# Altium footprint library LDO.PcbLib: 100 footprints (part 5 of 7)
Each footprint in its own frame and in the unit in brackets; x right, y up, seen from the top. Pads: shape width x height; smd on the part's side, far side on the other; paste and mask are expansions set on the pad; w line width, h text height; cw(c..) or ccw(c..) is an arc to the next point about the centre after c.
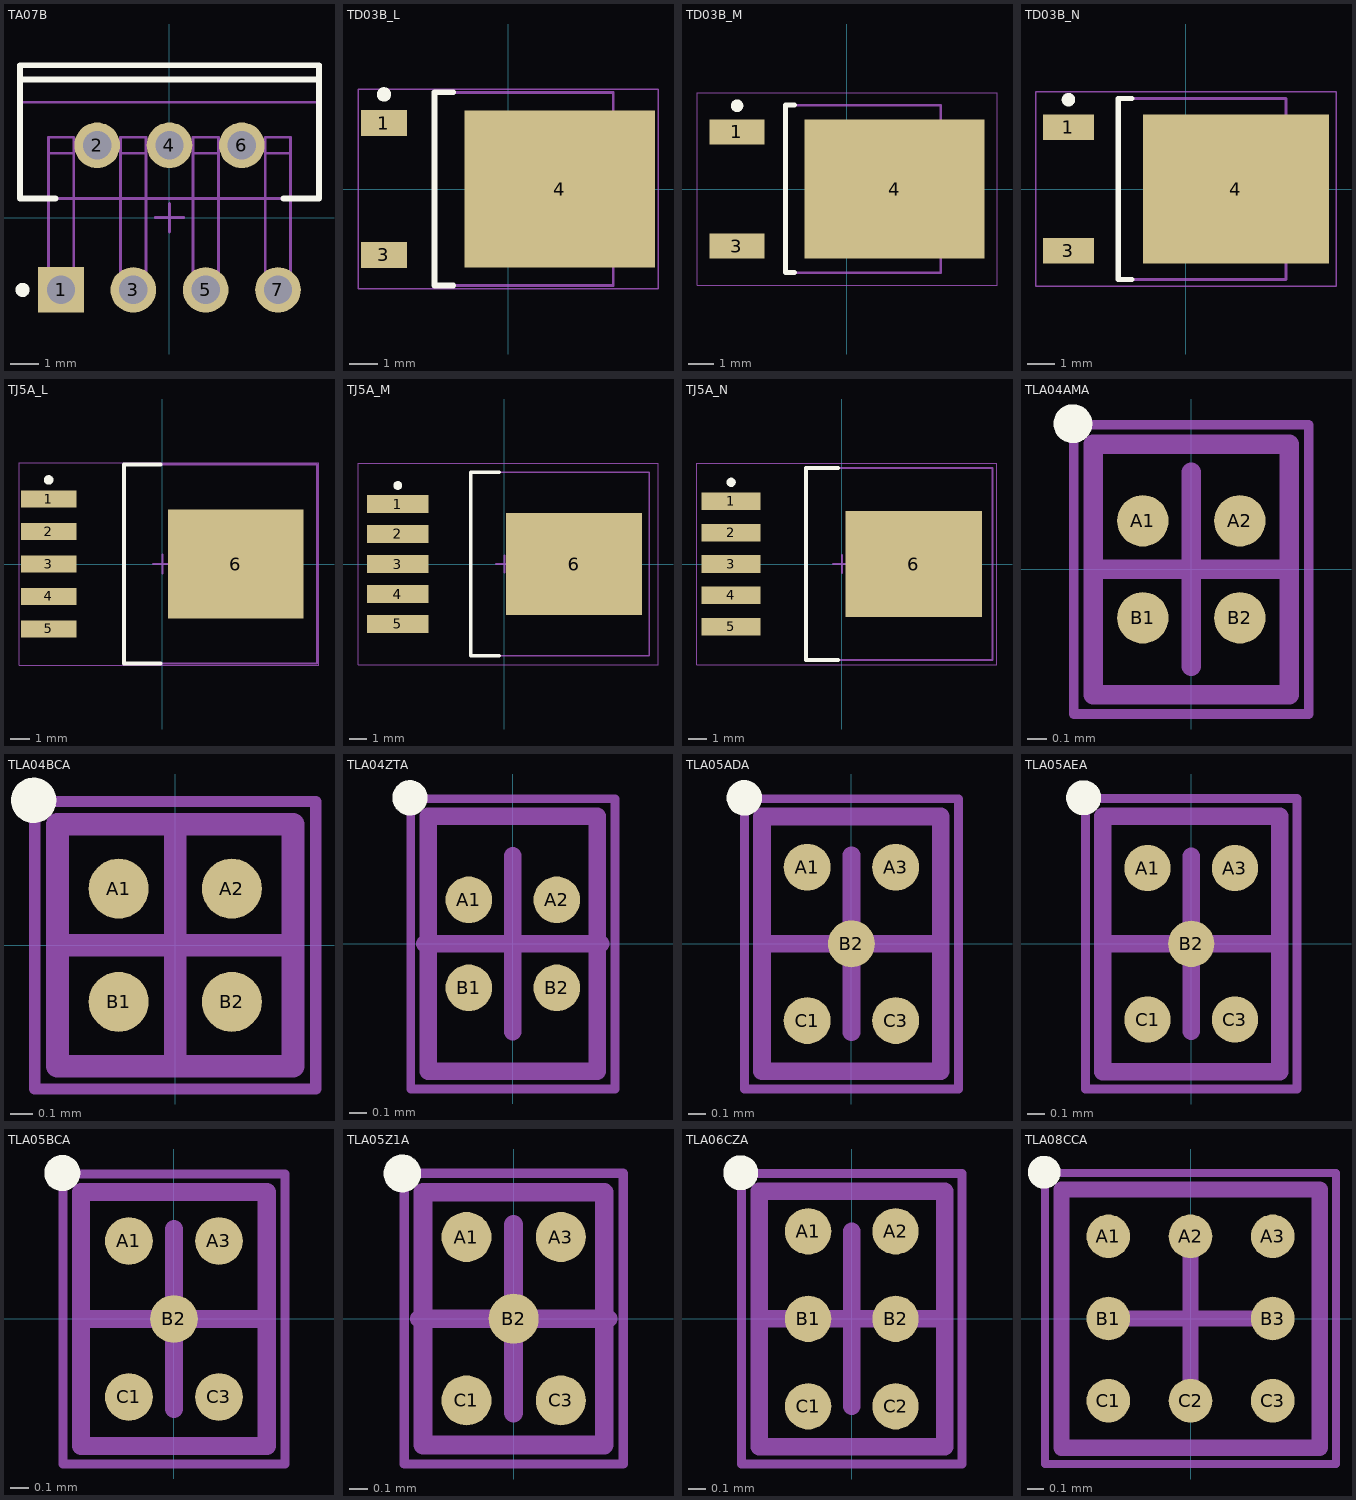
[diagram p4: the footprints below, top view; thin cyan lines are the x and y axes]

## TA07B [mm] "TO, Thru-Hole, Vertical, Heatsink Mounted; 7 Bent Staggered Leads; Pitch 1.27 mm"
height 20.9
pads (7):
  rect 1.6x1.6 hole 1: 1(-3.81,-2.54)
  round 1.6 hole 1: 2(-2.54,2.54) 3(-1.27,-2.54) 4(0,2.54) 5(1.27,-2.54) 6(2.54,2.54) 7(3.81,-2.54)
Top Overlay:
  circle w0.25: c-5.16,-2.54 r0.125
  lines w0.2: -5.25,4.85 5.25,4.85 ; -4,0.67 -5.25,0.67 -5.25,5.35 5.25,5.35 5.25,0.67 4,0.67
Mechanical 13:
  lines w0.1: -5.25,4.05 5.25,4.05 ; -4.255,-2.26 -4.255,-2.82 -3.365,-2.82 -3.365,-2.26 ; -4.255,-2.26 -3.365,-2.26 ; -4.255,-2.26 -4.255,2.26 ; -4.255,2.26 -3.365,2.26 ; -4.255,2.26 -4.255,2.82 -3.365,2.82 -3.365,2.26 ; -3.365,-2.26 -3.365,2.26 ; -1.715,-2.26 -1.715,-2.82 -0.825,-2.82 -0.825,-2.26 ; -1.715,-2.26 -0.825,-2.26 ; -1.715,-2.26 -1.715,2.26 ; -1.715,2.26 -0.825,2.26 ; -1.715,2.26 -1.715,2.82 -0.825,2.82 -0.825,2.26 ; -0.825,-2.26 -0.825,2.26 ; 0.825,-2.26 0.825,-2.82 1.715,-2.82 1.715,-2.26 ; 0.825,-2.26 1.715,-2.26 ; 0.825,-2.26 0.825,2.26 ; 0.825,2.26 1.715,2.26 ; 0.825,2.26 0.825,2.82 1.715,2.82 1.715,2.26 ; 1.715,-2.26 1.715,2.26 ; 3.365,-2.26 3.365,2.26 ; 3.365,-2.26 3.365,-2.82 4.255,-2.82 4.255,-2.26 ; 3.365,-2.26 4.255,-2.26 ; 3.365,2.26 4.255,2.26 ; 3.365,2.26 3.365,2.82 4.255,2.82 4.255,2.26 ; 4.255,-2.26 4.255,2.26 ; -5.25,0.67 5.25,0.67 5.25,5.35 -5.25,5.35 -5.25,0.67 ; -2.985,2.26 -2.095,2.26 -2.095,2.82 -2.985,2.82 -2.985,2.26 ; -0.445,2.26 0.445,2.26 0.445,2.82 -0.445,2.82 -0.445,2.26 ; 2.095,2.26 2.985,2.26 2.985,2.82 2.095,2.82 2.095,2.26
Mechanical 15:
  lines w0.1: -0.5,0 0.5,0 ; 0,-0.5 0,0.5
3D body: height 20.9, standoff 14.35, extent -5.249,4.051 5.249,5.349
3D body: height 5.4, standoff 3.3, extent 0.826,2.261 1.714,2.819
3D body: height 5.4, standoff 3.3, extent 3.366,2.261 4.254,2.819
3D body: height 5.4, standoff 0, extent 2.096,2.261 2.984,2.819
3D body: height 5.4, standoff 0, extent -0.444,2.261 0.444,2.819
3D body: height 5.4, standoff 3.3, extent -4.254,2.261 -3.366,2.819
3D body: height 5.4, standoff 0, extent -2.984,2.261 -2.096,2.819
3D body: height 5.4, standoff 3.3, extent -1.714,2.261 -0.826,2.819
3D body: height 3.69, standoff 2.15, extent -4.254,0.671 -3.366,2.259
3D body: height 3.69, standoff 2.15, extent -1.714,0.671 -0.826,2.259
3D body: height 3.69, standoff 2.15, extent 0.826,0.671 1.714,2.259
3D body: height 3.69, standoff 2.15, extent 3.366,0.671 4.254,2.259
3D body: height 2.45, standoff 0.45, extent 3.366,-2.259 4.254,0.669
3D body: height 2.45, standoff 0.45, extent 0.826,-2.259 1.714,0.669
3D body: height 2.45, standoff 0.45, extent -4.254,-2.259 -3.366,0.669
3D body: height 2.45, standoff 0.45, extent -1.714,-2.259 -0.826,0.669
3D body: height 0.7, standoff 0, extent 0.826,-2.819 1.714,-2.261
3D body: height 0.7, standoff 0, extent -4.254,-2.819 -3.366,-2.261
3D body: height 0.7, standoff 0, extent -1.714,-2.819 -0.826,-2.261
3D body: height 0.7, standoff 0, extent 3.366,-2.819 4.254,-2.261
3D body: height 14.35, standoff 5.4, extent -5.3,0.62 5.3,5.4

## TD03B_L [mm] "D-PAK, 4-Leads, Body 6.1x6.6mm, Pitch 2.29mm, Lead Span 9.7mm, IPC High Density"
height 2.38
pads (3):
  rect 1.6x0.9 smd: 1(-4.3,2.28) 3(-4.3,-2.28)
  rect 6.6x5.45 smd: 4(1.8,0)
Top Overlay:
  circle w0.25: c-4.3,3.28 r0.125
  lines w0.2: -1.9,-3.35 -2.55,-3.35 -2.55,3.35 -1.9,3.35
Mechanical 13:
  lines w0.1: -2.55,-3.35 3.65,-3.35 3.65,3.35 -2.55,3.35 -2.55,-3.35
Mechanical 15:
  lines w0.05: -5.2,-3.45 5.2,-3.45 5.2,3.45 -5.2,3.45 -5.2,-3.45
  lines w0.1: -0.5,0 0.5,0 ; 0,-0.5 0,0.5
3D body: height 2.38, standoff 0.17, extent -2.55,-3.35 3.65,3.35

## TD03B_M [mm] "D-PAK, 4-Leads, Body 6.1x6.6mm, Pitch 2.29mm, Lead Span 9.7mm, IPC Low Density"
height 2.38
pads (3):
  rect 2.2x1 smd: 1(-4.4,2.28) 3(-4.4,-2.28)
  rect 7.2x5.55 smd: 4(1.9,0)
Top Overlay:
  circle w0.25: c-4.4,3.33 r0.125
  lines w0.2: -2.1,-3.35 -2.45,-3.35 -2.45,3.35 -2.1,3.35
Mechanical 13:
  lines w0.1: -2.45,-3.35 3.75,-3.35 3.75,3.35 -2.45,3.35 -2.45,-3.35
Mechanical 15:
  lines w0.05: -6,-3.85 6,-3.85 6,3.85 -6,3.85 -6,-3.85
  lines w0.1: -0.5,0 0.5,0 ; 0,-0.5 0,0.5
3D body: height 2.38, standoff 0.17, extent -2.45,-3.35 3.75,3.35

## TD03B_N [mm] "D-PAK, 4-Leads, Body 6.1x6.6mm, Pitch 2.29mm, Lead Span 9.7mm, IPC Medium Density"
height 2.38
pads (3):
  rect 1.9x0.95 smd: 1(-4.35,2.28) 3(-4.35,-2.28)
  rect 6.9x5.5 smd: 4(1.85,0)
Top Overlay:
  circle w0.25: c-4.35,3.305 r0.125
  lines w0.2: -2,-3.35 -2.5,-3.35 -2.5,3.35 -2,3.35
Mechanical 13:
  lines w0.1: -2.5,-3.35 3.7,-3.35 3.7,3.35 -2.5,3.35 -2.5,-3.35
Mechanical 15:
  lines w0.05: -5.55,-3.6 5.55,-3.6 5.55,3.6 -5.55,3.6 -5.55,-3.6
  lines w0.1: -0.5,0 0.5,0 ; 0,-0.5 0,0.5
3D body: height 2.38, standoff 0.17, extent -2.5,-3.35 3.7,3.35

## TJ5A_L [mm] "D2-PAK, 6-Leads, Body 9.9x10.2mm, Pitch 1.7mm, Lead Span 14mm, IPC High Density"
height 2.1
pads (6):
  rect 2.9x0.9 smd: 1(-5.95,3.4) 2(-5.95,1.7) 3(-5.95,0) 4(-5.95,-1.7) 5(-5.95,-3.4)
  rect 7.1x5.7 smd: 6(3.85,0)
Top Overlay:
  circle w0.25: c-5.95,4.4 r0.125
  lines w0.2: -0.1,-5.2 -2,-5.2 -2,5.2 -0.1,5.2
Mechanical 13:
  lines w0.1: -2,-5.2 8.1,-5.2 8.1,5.2 -2,5.2 -2,-5.2
Mechanical 15:
  lines w0.05: -7.5,-5.3 8.2,-5.3 8.2,5.3 -7.5,5.3 -7.5,-5.3
  lines w0.1: -0.5,0 0.5,0 ; 0,-0.5 0,0.5
3D body: height 2.1, standoff 0, extent -2,-5.2 8.1,5.2

## TJ5A_M [mm] "D2-PAK, 6-Leads, Body 9.9x10.2mm, Pitch 1.7mm, Lead Span 14mm, IPC Low Density"
height 2.1
pads (6):
  rect 3.5x1 smd: 1(-6.05,3.4) 2(-6.05,1.7) 3(-6.05,0) 4(-6.05,-1.7) 5(-6.05,-3.4)
  rect 7.7x5.8 smd: 6(3.95,0)
Top Overlay:
  circle w0.25: c-6.05,4.45 r0.125
  lines w0.2: -0.3,-5.2 -1.9,-5.2 -1.9,5.2 -0.3,5.2
Mechanical 13:
  lines w0.1: -1.9,-5.2 -1.9,5.2 8.2,5.2 8.2,-5.2 -1.9,-5.2
Mechanical 15:
  lines w0.05: -8.3,-5.7 -8.3,5.7 8.7,5.7 8.7,-5.7 -8.3,-5.7
  lines w0.1: -0.5,0 0.5,0 ; 0,-0.5 0,0.5
3D body: height 2.1, standoff 0, extent -1.9,-5.2 8.2,5.2

## TJ5A_N [mm] "D2-PAK, 6-Leads, Body 9.9x10.2mm, Pitch 1.7mm, Lead Span 14mm, IPC Medium Density"
height 2.1
pads (6):
  rect 3.2x0.95 smd: 1(-6,3.4) 2(-6,1.7) 3(-6,0) 4(-6,-1.7) 5(-6,-3.4)
  rect 7.4x5.75 smd: 6(3.9,0)
Top Overlay:
  circle w0.25: c-6,4.425 r0.125
  lines w0.2: -0.2,-5.2 -1.95,-5.2 -1.95,5.2 -0.2,5.2
Mechanical 13:
  lines w0.1: -1.95,-5.2 8.15,-5.2 8.15,5.2 -1.95,5.2 -1.95,-5.2
Mechanical 15:
  lines w0.05: -7.85,-5.45 8.4,-5.45 8.4,5.45 -7.85,5.45 -7.85,-5.45
  lines w0.1: -0.5,0 0.5,0 ; 0,-0.5 0,0.5
3D body: height 2.1, standoff 0, extent -1.95,-5.2 8.15,5.2

## TLA04AMA [mm] "Micro SMD, 4-Leads, Body 1.29x1.01mm, Pitch 0.5mm, NSC Recommended"
height 0.68
pads (4):
  round 0.265 smd paste-0.132 mask+0.05: A1(-0.25,0.25) A2(0.25,0.25) B1(-0.25,-0.25) B2(0.25,-0.25)
Top Overlay:
  circle w0.1: c-0.61,0.75 r0.05
Top Paste:
  circle w0.05: c-0.325,0.175 r0.025
  circle w0.05: c-0.175,0.325 r0.025
  circle w0.05: c-0.175,0.175 r0.025
  circle w0.05: c-0.325,0.325 r0.025
  circle w0.05: c0.175,0.175 r0.025
  circle w0.05: c0.325,0.325 r0.025
  circle w0.05: c0.325,0.175 r0.025
  circle w0.05: c0.175,0.325 r0.025
  circle w0.05: c-0.325,-0.325 r0.025
  circle w0.05: c-0.175,-0.175 r0.025
  circle w0.05: c-0.175,-0.325 r0.025
  circle w0.05: c-0.325,-0.175 r0.025
  circle w0.05: c0.175,-0.325 r0.025
  circle w0.05: c0.325,-0.175 r0.025
  circle w0.05: c0.325,-0.325 r0.025
  circle w0.05: c0.175,-0.175 r0.025
  region: -0.325,0.325 -0.325,0.175 -0.175,0.175 -0.175,0.325
  region: -0.325,0.175 -0.325,0.325 -0.375,0.325 -0.375,0.175
  rectangle: -0.325,0.325 -0.175,0.375
  region: -0.175,0.325 -0.175,0.175 -0.125,0.175 -0.125,0.325
  region: -0.175,0.175 -0.325,0.175 -0.325,0.125 -0.175,0.125
  region: 0.175,0.325 0.175,0.175 0.325,0.175 0.325,0.325
  region: 0.175,0.175 0.175,0.325 0.125,0.325 0.125,0.175
  rectangle: 0.175,0.325 0.325,0.375
  region: 0.325,0.325 0.325,0.175 0.375,0.175 0.375,0.325
  region: 0.325,0.175 0.175,0.175 0.175,0.125 0.325,0.125
  region: -0.325,-0.175 -0.325,-0.325 -0.175,-0.325 -0.175,-0.175
  region: -0.325,-0.325 -0.325,-0.175 -0.375,-0.175 -0.375,-0.325
  rectangle: -0.325,-0.175 -0.175,-0.125
  region: -0.175,-0.175 -0.175,-0.325 -0.125,-0.325 -0.125,-0.175
  region: -0.175,-0.325 -0.325,-0.325 -0.325,-0.375 -0.175,-0.375
  region: 0.175,-0.175 0.175,-0.325 0.325,-0.325 0.325,-0.175
  region: 0.175,-0.325 0.175,-0.175 0.125,-0.175 0.125,-0.325
  rectangle: 0.175,-0.175 0.325,-0.125
  region: 0.325,-0.175 0.325,-0.325 0.375,-0.325 0.375,-0.175
  region: 0.325,-0.325 0.175,-0.325 0.175,-0.375 0.325,-0.375
Mechanical 13:
  lines w0.1: -0.505,-0.645 -0.505,0.645 0.505,0.645 0.505,-0.645 -0.505,-0.645
Mechanical 15:
  lines w0.05: -0.605,-0.745 -0.605,0.745 0.605,0.745 0.605,-0.745 -0.605,-0.745
  lines w0.1: -0.5,0 0.5,0 ; 0,-0.5 0,0.5
3D body: height 0.68, standoff 0, extent -0.505,-0.645 0.505,0.645

## TLA04BCA [mm] "Micro SMD, 4-Leads, Body 1.07x1.04mm, Pitch 0.5mm, NSC Recommended"
height 0.68
pads (4):
  round 0.265 smd paste-0.132 mask+0.05: A1(-0.25,0.25) A2(0.25,0.25) B1(-0.25,-0.25) B2(0.25,-0.25)
Top Overlay:
  circle w0.1: c-0.625,0.64 r0.05
Top Paste:
  circle w0.05: c-0.325,0.175 r0.025
  circle w0.05: c-0.175,0.325 r0.025
  circle w0.05: c-0.175,0.175 r0.025
  circle w0.05: c-0.325,0.325 r0.025
  circle w0.05: c0.175,0.175 r0.025
  circle w0.05: c0.325,0.325 r0.025
  circle w0.05: c0.325,0.175 r0.025
  circle w0.05: c0.175,0.325 r0.025
  circle w0.05: c-0.325,-0.325 r0.025
  circle w0.05: c-0.175,-0.175 r0.025
  circle w0.05: c-0.175,-0.325 r0.025
  circle w0.05: c-0.325,-0.175 r0.025
  circle w0.05: c0.175,-0.325 r0.025
  circle w0.05: c0.325,-0.175 r0.025
  circle w0.05: c0.325,-0.325 r0.025
  circle w0.05: c0.175,-0.175 r0.025
  region: -0.325,0.325 -0.325,0.175 -0.175,0.175 -0.175,0.325
  region: -0.325,0.175 -0.325,0.325 -0.375,0.325 -0.375,0.175
  rectangle: -0.325,0.325 -0.175,0.375
  region: -0.175,0.325 -0.175,0.175 -0.125,0.175 -0.125,0.325
  region: -0.175,0.175 -0.325,0.175 -0.325,0.125 -0.175,0.125
  region: 0.175,0.325 0.175,0.175 0.325,0.175 0.325,0.325
  region: 0.175,0.175 0.175,0.325 0.125,0.325 0.125,0.175
  rectangle: 0.175,0.325 0.325,0.375
  region: 0.325,0.325 0.325,0.175 0.375,0.175 0.375,0.325
  region: 0.325,0.175 0.175,0.175 0.175,0.125 0.325,0.125
  region: -0.325,-0.175 -0.325,-0.325 -0.175,-0.325 -0.175,-0.175
  region: -0.325,-0.325 -0.325,-0.175 -0.375,-0.175 -0.375,-0.325
  rectangle: -0.325,-0.175 -0.175,-0.125
  region: -0.175,-0.175 -0.175,-0.325 -0.125,-0.325 -0.125,-0.175
  region: -0.175,-0.325 -0.325,-0.325 -0.325,-0.375 -0.175,-0.375
  region: 0.175,-0.175 0.175,-0.325 0.325,-0.325 0.325,-0.175
  region: 0.175,-0.325 0.175,-0.175 0.125,-0.175 0.125,-0.325
  rectangle: 0.175,-0.175 0.325,-0.125
  region: 0.325,-0.175 0.325,-0.325 0.375,-0.325 0.375,-0.175
  region: 0.325,-0.325 0.175,-0.325 0.175,-0.375 0.325,-0.375
Mechanical 13:
  lines w0.1: -0.52,-0.535 -0.52,0.535 0.52,0.535 0.52,-0.535 -0.52,-0.535
Mechanical 15:
  lines w0.05: -0.62,-0.635 -0.62,0.635 0.62,0.635 0.62,-0.635 -0.62,-0.635
  lines w0.1: -0.5,0 0.5,0 ; 0,-0.5 0,0.5
3D body: height 0.68, standoff 0, extent -0.52,-0.535 0.52,0.535

## TLA04ZTA [mm] "Micro SMD, 4-Leads, Body 1.45x0.96mm, Pitch 0.5mm, NSC Recommended"
height 0.68
pads (4):
  round 0.265 smd paste-0.132 mask+0.05: A1(-0.25,0.25) A2(0.25,0.25) B1(-0.25,-0.25) B2(0.25,-0.25)
Top Overlay:
  circle w0.1: c-0.585,0.83 r0.05
Top Paste:
  circle w0.05: c-0.325,0.175 r0.025
  circle w0.05: c-0.175,0.325 r0.025
  circle w0.05: c-0.175,0.175 r0.025
  circle w0.05: c-0.325,0.325 r0.025
  circle w0.05: c0.175,0.175 r0.025
  circle w0.05: c0.325,0.325 r0.025
  circle w0.05: c0.325,0.175 r0.025
  circle w0.05: c0.175,0.325 r0.025
  circle w0.05: c-0.325,-0.325 r0.025
  circle w0.05: c-0.175,-0.175 r0.025
  circle w0.05: c-0.175,-0.325 r0.025
  circle w0.05: c-0.325,-0.175 r0.025
  circle w0.05: c0.175,-0.325 r0.025
  circle w0.05: c0.325,-0.175 r0.025
  circle w0.05: c0.325,-0.325 r0.025
  circle w0.05: c0.175,-0.175 r0.025
  region: -0.325,0.325 -0.325,0.175 -0.175,0.175 -0.175,0.325
  region: -0.325,0.175 -0.325,0.325 -0.375,0.325 -0.375,0.175
  rectangle: -0.325,0.325 -0.175,0.375
  region: -0.175,0.325 -0.175,0.175 -0.125,0.175 -0.125,0.325
  region: -0.175,0.175 -0.325,0.175 -0.325,0.125 -0.175,0.125
  region: 0.175,0.325 0.175,0.175 0.325,0.175 0.325,0.325
  region: 0.175,0.175 0.175,0.325 0.125,0.325 0.125,0.175
  rectangle: 0.175,0.325 0.325,0.375
  region: 0.325,0.325 0.325,0.175 0.375,0.175 0.375,0.325
  region: 0.325,0.175 0.175,0.175 0.175,0.125 0.325,0.125
  region: -0.325,-0.175 -0.325,-0.325 -0.175,-0.325 -0.175,-0.175
  region: -0.325,-0.325 -0.325,-0.175 -0.375,-0.175 -0.375,-0.325
  rectangle: -0.325,-0.175 -0.175,-0.125
  region: -0.175,-0.175 -0.175,-0.325 -0.125,-0.325 -0.125,-0.175
  region: -0.175,-0.325 -0.325,-0.325 -0.325,-0.375 -0.175,-0.375
  region: 0.175,-0.175 0.175,-0.325 0.325,-0.325 0.325,-0.175
  region: 0.175,-0.325 0.175,-0.175 0.125,-0.175 0.125,-0.325
  rectangle: 0.175,-0.175 0.325,-0.125
  region: 0.325,-0.175 0.325,-0.325 0.375,-0.325 0.375,-0.175
  region: 0.325,-0.325 0.175,-0.325 0.175,-0.375 0.325,-0.375
Mechanical 13:
  lines w0.1: -0.48,-0.725 -0.48,0.725 0.48,0.725 0.48,-0.725 -0.48,-0.725
Mechanical 15:
  lines w0.05: -0.58,-0.825 -0.58,0.825 0.58,0.825 0.58,-0.825 -0.58,-0.825
  lines w0.1: -0.5,0 0.5,0 ; 0,-0.5 0,0.5
3D body: height 0.68, standoff 0, extent -0.48,-0.725 0.48,0.725

## TLA05ADA [mm] "Micro SMD, 5-Leads, Body 1.45x1.01mm, Pitch 0.5mm, NSC Recommended"
height 0.68
pads (5):
  round 0.265 smd paste-0.132 mask+0.05: A1(-0.25,0.433) A3(0.25,0.433) B2(0,0) C1(-0.25,-0.433) C3(0.25,-0.433)
Top Overlay:
  circle w0.1: c-0.605,0.825 r0.05
Top Paste:
  circle w0.05: c-0.325,-0.508 r0.025
  circle w0.05: c-0.175,-0.358 r0.025
  circle w0.05: c-0.175,-0.508 r0.025
  circle w0.05: c-0.325,-0.358 r0.025
  circle w0.05: c0.175,-0.508 r0.025
  circle w0.05: c0.325,-0.358 r0.025
  circle w0.05: c0.325,-0.508 r0.025
  circle w0.05: c0.175,-0.358 r0.025
  circle w0.05: c0.175,0.358 r0.025
  circle w0.05: c0.325,0.508 r0.025
  circle w0.05: c0.325,0.358 r0.025
  circle w0.05: c0.175,0.508 r0.025
  circle w0.05: c-0.325,0.358 r0.025
  circle w0.05: c-0.175,0.508 r0.025
  circle w0.05: c-0.175,0.358 r0.025
  circle w0.05: c-0.325,0.508 r0.025
  circle w0.05: c-0.075,-0.075 r0.025
  circle w0.05: c0.075,0.075 r0.025
  circle w0.05: c0.075,-0.075 r0.025
  circle w0.05: c-0.075,0.075 r0.025
  region: -0.325,-0.358 -0.325,-0.508 -0.175,-0.508 -0.175,-0.358
  region: -0.325,-0.508 -0.325,-0.358 -0.375,-0.358 -0.375,-0.508
  rectangle: -0.325,-0.358 -0.175,-0.308
  region: -0.175,-0.358 -0.175,-0.508 -0.125,-0.508 -0.125,-0.358
  region: -0.175,-0.508 -0.325,-0.508 -0.325,-0.558 -0.175,-0.558
  region: 0.175,-0.358 0.175,-0.508 0.325,-0.508 0.325,-0.358
  region: 0.175,-0.508 0.175,-0.358 0.125,-0.358 0.125,-0.508
  rectangle: 0.175,-0.358 0.325,-0.308
  region: 0.325,-0.358 0.325,-0.508 0.375,-0.508 0.375,-0.358
  region: 0.325,-0.508 0.175,-0.508 0.175,-0.558 0.325,-0.558
  region: 0.175,0.508 0.175,0.358 0.325,0.358 0.325,0.508
  region: 0.175,0.358 0.175,0.508 0.125,0.508 0.125,0.358
  rectangle: 0.175,0.508 0.325,0.558
  region: 0.325,0.508 0.325,0.358 0.375,0.358 0.375,0.508
  region: 0.325,0.358 0.175,0.358 0.175,0.308 0.325,0.308
  region: -0.325,0.508 -0.325,0.358 -0.175,0.358 -0.175,0.508
  region: -0.325,0.358 -0.325,0.508 -0.375,0.508 -0.375,0.358
  rectangle: -0.325,0.508 -0.175,0.558
  region: -0.175,0.508 -0.175,0.358 -0.125,0.358 -0.125,0.508
  region: -0.175,0.358 -0.325,0.358 -0.325,0.308 -0.175,0.308
  region: -0.075,0.075 -0.075,-0.075 0.075,-0.075 0.075,0.075
  region: -0.075,-0.075 -0.075,0.075 -0.125,0.075 -0.125,-0.075
  rectangle: -0.075,0.075 0.075,0.125
  region: 0.075,0.075 0.075,-0.075 0.125,-0.075 0.125,0.075
  region: 0.075,-0.075 -0.075,-0.075 -0.075,-0.125 0.075,-0.125
Mechanical 13:
  lines w0.1: -0.505,-0.72 -0.505,0.72 0.505,0.72 0.505,-0.72 -0.505,-0.72
Mechanical 15:
  lines w0.05: -0.605,-0.82 -0.605,0.82 0.605,0.82 0.605,-0.82 -0.605,-0.82
  lines w0.1: -0.5,0 0.5,0 ; 0,-0.5 0,0.5
3D body: height 0.68, standoff 0, extent -0.504,-0.724 0.504,0.724

## TLA05AEA [mm] "Micro SMD, 5-Leads, Body 1.45x1.01mm, Pitch 0.5mm, NSC Recommended"
height 0.68
pads (5):
  round 0.265 smd paste-0.132 mask+0.05: A1(-0.25,0.433) A3(0.25,0.433) B2(0,0) C1(-0.25,-0.433) C3(0.25,-0.433)
Top Overlay:
  circle w0.1: c-0.615,0.835 r0.05
Top Paste:
  circle w0.05: c-0.325,0.508 r0.025
  circle w0.05: c-0.175,0.358 r0.025
  circle w0.05: c-0.175,0.508 r0.025
  circle w0.05: c-0.325,0.358 r0.025
  circle w0.05: c-0.075,0.075 r0.025
  circle w0.05: c0.075,-0.075 r0.025
  circle w0.05: c0.075,0.075 r0.025
  circle w0.05: c-0.075,-0.075 r0.025
  circle w0.05: c0.175,0.508 r0.025
  circle w0.05: c0.325,0.358 r0.025
  circle w0.05: c0.325,0.508 r0.025
  circle w0.05: c0.175,0.358 r0.025
  circle w0.05: c0.175,-0.358 r0.025
  circle w0.05: c0.325,-0.508 r0.025
  circle w0.05: c0.325,-0.358 r0.025
  circle w0.05: c0.175,-0.508 r0.025
  circle w0.05: c-0.325,-0.358 r0.025
  circle w0.05: c-0.175,-0.508 r0.025
  circle w0.05: c-0.175,-0.358 r0.025
  circle w0.05: c-0.325,-0.508 r0.025
  region: -0.175,0.358 -0.325,0.358 -0.325,0.308 -0.175,0.308
  region: -0.175,0.508 -0.175,0.358 -0.125,0.358 -0.125,0.508
  rectangle: -0.325,0.508 -0.175,0.558
  region: -0.325,0.358 -0.325,0.508 -0.375,0.508 -0.375,0.358
  region: -0.325,0.508 -0.325,0.358 -0.175,0.358 -0.175,0.508
  region: 0.075,-0.075 -0.075,-0.075 -0.075,-0.125 0.075,-0.125
  region: 0.075,0.075 0.075,-0.075 0.125,-0.075 0.125,0.075
  rectangle: -0.075,0.075 0.075,0.125
  region: -0.075,-0.075 -0.075,0.075 -0.125,0.075 -0.125,-0.075
  region: -0.075,0.075 -0.075,-0.075 0.075,-0.075 0.075,0.075
  region: 0.325,0.358 0.175,0.358 0.175,0.308 0.325,0.308
  region: 0.325,0.508 0.325,0.358 0.375,0.358 0.375,0.508
  rectangle: 0.175,0.508 0.325,0.558
  region: 0.175,0.358 0.175,0.508 0.125,0.508 0.125,0.358
  region: 0.175,0.508 0.175,0.358 0.325,0.358 0.325,0.508
  region: 0.325,-0.508 0.175,-0.508 0.175,-0.558 0.325,-0.558
  region: 0.325,-0.358 0.325,-0.508 0.375,-0.508 0.375,-0.358
  rectangle: 0.175,-0.358 0.325,-0.308
  region: 0.175,-0.508 0.175,-0.358 0.125,-0.358 0.125,-0.508
  region: 0.175,-0.358 0.175,-0.508 0.325,-0.508 0.325,-0.358
  region: -0.175,-0.508 -0.325,-0.508 -0.325,-0.558 -0.175,-0.558
  region: -0.175,-0.358 -0.175,-0.508 -0.125,-0.508 -0.125,-0.358
  rectangle: -0.325,-0.358 -0.175,-0.308
  region: -0.325,-0.508 -0.325,-0.358 -0.375,-0.358 -0.375,-0.508
  region: -0.325,-0.358 -0.325,-0.508 -0.175,-0.508 -0.175,-0.358
Mechanical 13:
  lines w0.1: -0.505,-0.73 -0.505,0.73 0.505,0.73 0.505,-0.73 -0.505,-0.73
Mechanical 15:
  lines w0.05: -0.605,-0.83 -0.605,0.83 0.605,0.83 0.605,-0.83 -0.605,-0.83
  lines w0.1: -0.5,0 0.5,0 ; 0,-0.5 0,0.5
3D body: height 0.68, standoff 0, extent -0.504,-0.724 0.504,0.724

## TLA05BCA [mm] "Micro SMD, 5-Leads, Body 1.41x1.03mm, Pitch 0.5mm, NSC Recommended"
height 0.68
pads (5):
  round 0.265 smd paste-0.132 mask+0.05: A1(-0.25,0.433) A3(0.25,0.433) B2(0,0) C1(-0.25,-0.433) C3(0.25,-0.433)
Top Overlay:
  circle w0.1: c-0.62,0.81 r0.05
Top Paste:
  circle w0.05: c0.175,-0.508 r0.025
  circle w0.05: c0.325,-0.358 r0.025
  circle w0.05: c0.325,-0.508 r0.025
  circle w0.05: c0.175,-0.358 r0.025
  circle w0.05: c-0.325,-0.508 r0.025
  circle w0.05: c-0.175,-0.358 r0.025
  circle w0.05: c-0.175,-0.508 r0.025
  circle w0.05: c-0.325,-0.358 r0.025
  circle w0.05: c-0.325,0.358 r0.025
  circle w0.05: c-0.175,0.508 r0.025
  circle w0.05: c-0.175,0.358 r0.025
  circle w0.05: c-0.325,0.508 r0.025
  circle w0.05: c0.175,0.358 r0.025
  circle w0.05: c0.325,0.508 r0.025
  circle w0.05: c0.325,0.358 r0.025
  circle w0.05: c0.175,0.508 r0.025
  circle w0.05: c-0.075,-0.075 r0.025
  circle w0.05: c0.075,0.075 r0.025
  circle w0.05: c0.075,-0.075 r0.025
  circle w0.05: c-0.075,0.075 r0.025
  region: 0.175,-0.358 0.175,-0.508 0.325,-0.508 0.325,-0.358
  region: 0.175,-0.508 0.175,-0.358 0.125,-0.358 0.125,-0.508
  rectangle: 0.175,-0.358 0.325,-0.308
  region: 0.325,-0.358 0.325,-0.508 0.375,-0.508 0.375,-0.358
  region: 0.325,-0.508 0.175,-0.508 0.175,-0.558 0.325,-0.558
  region: -0.325,-0.358 -0.325,-0.508 -0.175,-0.508 -0.175,-0.358
  region: -0.325,-0.508 -0.325,-0.358 -0.375,-0.358 -0.375,-0.508
  rectangle: -0.325,-0.358 -0.175,-0.308
  region: -0.175,-0.358 -0.175,-0.508 -0.125,-0.508 -0.125,-0.358
  region: -0.175,-0.508 -0.325,-0.508 -0.325,-0.558 -0.175,-0.558
  region: -0.325,0.508 -0.325,0.358 -0.175,0.358 -0.175,0.508
  region: -0.325,0.358 -0.325,0.508 -0.375,0.508 -0.375,0.358
  rectangle: -0.325,0.508 -0.175,0.558
  region: -0.175,0.508 -0.175,0.358 -0.125,0.358 -0.125,0.508
  region: -0.175,0.358 -0.325,0.358 -0.325,0.308 -0.175,0.308
  region: 0.175,0.508 0.175,0.358 0.325,0.358 0.325,0.508
  region: 0.175,0.358 0.175,0.508 0.125,0.508 0.125,0.358
  rectangle: 0.175,0.508 0.325,0.558
  region: 0.325,0.508 0.325,0.358 0.375,0.358 0.375,0.508
  region: 0.325,0.358 0.175,0.358 0.175,0.308 0.325,0.308
  region: -0.075,0.075 -0.075,-0.075 0.075,-0.075 0.075,0.075
  region: -0.075,-0.075 -0.075,0.075 -0.125,0.075 -0.125,-0.075
  rectangle: -0.075,0.075 0.075,0.125
  region: 0.075,0.075 0.075,-0.075 0.125,-0.075 0.125,0.075
  region: 0.075,-0.075 -0.075,-0.075 -0.075,-0.125 0.075,-0.125
Mechanical 13:
  lines w0.1: -0.515,-0.705 -0.515,0.705 0.515,0.705 0.515,-0.705 -0.515,-0.705
Mechanical 15:
  lines w0.05: -0.615,-0.805 -0.615,0.805 0.615,0.805 0.615,-0.805 -0.615,-0.805
  lines w0.1: -0.5,0 0.5,0 ; 0,-0.5 0,0.5
3D body: height 0.68, standoff 0, extent -0.514,-0.704 0.514,0.704

## TLA05Z1A [mm] "Micro SMD, 5-Leads, Body 1.34x0.96mm, Pitch 0.5mm, NSC Recommended"
height 0.68
pads (5):
  round 0.265 smd paste-0.132 mask+0.05: A1(-0.25,0.433) A3(0.25,0.433) B2(0,0) C1(-0.25,-0.433) C3(0.25,-0.433)
Top Overlay:
  circle w0.1: c-0.59,0.77 r0.05
Top Paste:
  circle w0.05: c-0.325,-0.508 r0.025
  circle w0.05: c-0.175,-0.358 r0.025
  circle w0.05: c-0.175,-0.508 r0.025
  circle w0.05: c-0.325,-0.358 r0.025
  circle w0.05: c0.175,-0.508 r0.025
  circle w0.05: c0.325,-0.358 r0.025
  circle w0.05: c0.325,-0.508 r0.025
  circle w0.05: c0.175,-0.358 r0.025
  circle w0.05: c-0.075,-0.075 r0.025
  circle w0.05: c0.075,0.075 r0.025
  circle w0.05: c0.075,-0.075 r0.025
  circle w0.05: c-0.075,0.075 r0.025
  circle w0.05: c0.175,0.358 r0.025
  circle w0.05: c0.325,0.508 r0.025
  circle w0.05: c0.325,0.358 r0.025
  circle w0.05: c0.175,0.508 r0.025
  circle w0.05: c-0.325,0.358 r0.025
  circle w0.05: c-0.175,0.508 r0.025
  circle w0.05: c-0.175,0.358 r0.025
  circle w0.05: c-0.325,0.508 r0.025
  region: -0.325,-0.358 -0.325,-0.508 -0.175,-0.508 -0.175,-0.358
  region: -0.325,-0.508 -0.325,-0.358 -0.375,-0.358 -0.375,-0.508
  rectangle: -0.325,-0.358 -0.175,-0.308
  region: -0.175,-0.358 -0.175,-0.508 -0.125,-0.508 -0.125,-0.358
  region: -0.175,-0.508 -0.325,-0.508 -0.325,-0.558 -0.175,-0.558
  region: 0.175,-0.358 0.175,-0.508 0.325,-0.508 0.325,-0.358
  region: 0.175,-0.508 0.175,-0.358 0.125,-0.358 0.125,-0.508
  rectangle: 0.175,-0.358 0.325,-0.308
  region: 0.325,-0.358 0.325,-0.508 0.375,-0.508 0.375,-0.358
  region: 0.325,-0.508 0.175,-0.508 0.175,-0.558 0.325,-0.558
  region: -0.075,0.075 -0.075,-0.075 0.075,-0.075 0.075,0.075
  region: -0.075,-0.075 -0.075,0.075 -0.125,0.075 -0.125,-0.075
  rectangle: -0.075,0.075 0.075,0.125
  region: 0.075,0.075 0.075,-0.075 0.125,-0.075 0.125,0.075
  region: 0.075,-0.075 -0.075,-0.075 -0.075,-0.125 0.075,-0.125
  region: 0.175,0.508 0.175,0.358 0.325,0.358 0.325,0.508
  region: 0.175,0.358 0.175,0.508 0.125,0.508 0.125,0.358
  rectangle: 0.175,0.508 0.325,0.558
  region: 0.325,0.508 0.325,0.358 0.375,0.358 0.375,0.508
  region: 0.325,0.358 0.175,0.358 0.175,0.308 0.325,0.308
  region: -0.325,0.508 -0.325,0.358 -0.175,0.358 -0.175,0.508
  region: -0.325,0.358 -0.325,0.508 -0.375,0.508 -0.375,0.358
  rectangle: -0.325,0.508 -0.175,0.558
  region: -0.175,0.508 -0.175,0.358 -0.125,0.358 -0.125,0.508
  region: -0.175,0.358 -0.325,0.358 -0.325,0.308 -0.175,0.308
Mechanical 13:
  lines w0.1: -0.48,-0.67 0.48,-0.67 0.48,0.67 -0.48,0.67 -0.48,-0.67
Mechanical 15:
  lines w0.05: -0.58,-0.77 0.58,-0.77 0.58,0.77 -0.58,0.77 -0.58,-0.77
  lines w0.1: -0.5,0 0.5,0 ; 0,-0.5 0,0.5
3D body: height 0.68, standoff 0, extent -0.479,-0.669 0.479,0.669

## TLA06CZA [mm] "Micro SMD, 6-Leads, Body 1.46x1.06mm, Pitch 0.5mm, NSC Recommended"
height 0.68
pads (6):
  round 0.265 smd paste-0.132 mask+0.05: A1(-0.25,0.5) A2(0.25,0.5) B1(-0.25,0) B2(0.25,0) C1(-0.25,-0.5) C2(0.25,-0.5)
Top Overlay:
  circle w0.1: c-0.635,0.835 r0.05
Top Paste:
  circle w0.05: c-0.325,0.425 r0.025
  circle w0.05: c-0.175,0.575 r0.025
  circle w0.05: c-0.175,0.425 r0.025
  circle w0.05: c-0.325,0.575 r0.025
  circle w0.05: c0.175,0.425 r0.025
  circle w0.05: c0.325,0.575 r0.025
  circle w0.05: c0.325,0.425 r0.025
  circle w0.05: c0.175,0.575 r0.025
  circle w0.05: c-0.325,-0.075 r0.025
  circle w0.05: c-0.175,0.075 r0.025
  circle w0.05: c-0.175,-0.075 r0.025
  circle w0.05: c-0.325,0.075 r0.025
  circle w0.05: c0.175,-0.075 r0.025
  circle w0.05: c0.325,0.075 r0.025
  circle w0.05: c0.325,-0.075 r0.025
  circle w0.05: c0.175,0.075 r0.025
  circle w0.05: c-0.325,-0.575 r0.025
  circle w0.05: c-0.175,-0.425 r0.025
  circle w0.05: c-0.175,-0.575 r0.025
  circle w0.05: c-0.325,-0.425 r0.025
  circle w0.05: c0.175,-0.575 r0.025
  circle w0.05: c0.325,-0.425 r0.025
  circle w0.05: c0.325,-0.575 r0.025
  circle w0.05: c0.175,-0.425 r0.025
  region: -0.325,0.575 -0.325,0.425 -0.175,0.425 -0.175,0.575
  region: -0.325,0.425 -0.325,0.575 -0.375,0.575 -0.375,0.425
  rectangle: -0.325,0.575 -0.175,0.625
  region: -0.175,0.575 -0.175,0.425 -0.125,0.425 -0.125,0.575
  region: -0.175,0.425 -0.325,0.425 -0.325,0.375 -0.175,0.375
  region: 0.175,0.575 0.175,0.425 0.325,0.425 0.325,0.575
  region: 0.175,0.425 0.175,0.575 0.125,0.575 0.125,0.425
  rectangle: 0.175,0.575 0.325,0.625
  region: 0.325,0.575 0.325,0.425 0.375,0.425 0.375,0.575
  region: 0.325,0.425 0.175,0.425 0.175,0.375 0.325,0.375
  region: -0.325,0.075 -0.325,-0.075 -0.175,-0.075 -0.175,0.075
  region: -0.325,-0.075 -0.325,0.075 -0.375,0.075 -0.375,-0.075
  rectangle: -0.325,0.075 -0.175,0.125
  region: -0.175,0.075 -0.175,-0.075 -0.125,-0.075 -0.125,0.075
  region: -0.175,-0.075 -0.325,-0.075 -0.325,-0.125 -0.175,-0.125
  region: 0.175,0.075 0.175,-0.075 0.325,-0.075 0.325,0.075
  region: 0.175,-0.075 0.175,0.075 0.125,0.075 0.125,-0.075
  rectangle: 0.175,0.075 0.325,0.125
  region: 0.325,0.075 0.325,-0.075 0.375,-0.075 0.375,0.075
  region: 0.325,-0.075 0.175,-0.075 0.175,-0.125 0.325,-0.125
  region: -0.325,-0.425 -0.325,-0.575 -0.175,-0.575 -0.175,-0.425
  region: -0.325,-0.575 -0.325,-0.425 -0.375,-0.425 -0.375,-0.575
  rectangle: -0.325,-0.425 -0.175,-0.375
  region: -0.175,-0.425 -0.175,-0.575 -0.125,-0.575 -0.125,-0.425
  region: -0.175,-0.575 -0.325,-0.575 -0.325,-0.625 -0.175,-0.625
  region: 0.175,-0.425 0.175,-0.575 0.325,-0.575 0.325,-0.425
  region: 0.175,-0.575 0.175,-0.425 0.125,-0.425 0.125,-0.575
  rectangle: 0.175,-0.425 0.325,-0.375
  region: 0.325,-0.425 0.325,-0.575 0.375,-0.575 0.375,-0.425
  region: 0.325,-0.575 0.175,-0.575 0.175,-0.625 0.325,-0.625
Mechanical 13:
  lines w0.1: -0.53,-0.73 -0.53,0.73 0.53,0.73 0.53,-0.73 -0.53,-0.73
Mechanical 15:
  lines w0.05: -0.63,-0.83 -0.63,0.83 0.63,0.83 0.63,-0.83 -0.63,-0.83
  lines w0.1: -0.5,0 0.5,0 ; 0,-0.5 0,0.5
3D body: height 0.68, standoff 0, extent -0.53,-0.73 0.53,0.73

## TLA08CCA [mm] "Micro SMD, 8-Leads, Body 1.57x1.57mm, Pitch 0.5mm, NSC Recommended"
height 0.68
pads (8):
  round 0.265 smd paste-0.132 mask+0.05: A1(-0.5,0.5) A2(0,0.5) A3(0.5,0.5) B1(-0.5,0) B3(0.5,0) C1(-0.5,-0.5) C2(0,-0.5) C3(0.5,-0.5)
Top Overlay:
  circle w0.1: c-0.89,0.89 r0.05
Top Paste:
  circle w0.05: c-0.575,0.425 r0.025
  circle w0.05: c-0.425,0.575 r0.025
  circle w0.05: c-0.425,0.425 r0.025
  circle w0.05: c-0.575,0.575 r0.025
  circle w0.05: c-0.075,0.425 r0.025
  circle w0.05: c0.075,0.575 r0.025
  circle w0.05: c0.075,0.425 r0.025
  circle w0.05: c-0.075,0.575 r0.025
  circle w0.05: c0.425,0.425 r0.025
  circle w0.05: c0.575,0.575 r0.025
  circle w0.05: c0.575,0.425 r0.025
  circle w0.05: c0.425,0.575 r0.025
  circle w0.05: c-0.575,-0.075 r0.025
  circle w0.05: c-0.425,0.075 r0.025
  circle w0.05: c-0.425,-0.075 r0.025
  circle w0.05: c-0.575,0.075 r0.025
  circle w0.05: c0.425,-0.075 r0.025
  circle w0.05: c0.575,0.075 r0.025
  circle w0.05: c0.575,-0.075 r0.025
  circle w0.05: c0.425,0.075 r0.025
  circle w0.05: c-0.575,-0.575 r0.025
  circle w0.05: c-0.425,-0.425 r0.025
  circle w0.05: c-0.425,-0.575 r0.025
  circle w0.05: c-0.575,-0.425 r0.025
  circle w0.05: c-0.075,-0.575 r0.025
  circle w0.05: c0.075,-0.425 r0.025
  circle w0.05: c0.075,-0.575 r0.025
  circle w0.05: c-0.075,-0.425 r0.025
  circle w0.05: c0.425,-0.575 r0.025
  circle w0.05: c0.575,-0.425 r0.025
  circle w0.05: c0.575,-0.575 r0.025
  circle w0.05: c0.425,-0.425 r0.025
  region: -0.575,0.575 -0.575,0.425 -0.425,0.425 -0.425,0.575
  region: -0.575,0.425 -0.575,0.575 -0.625,0.575 -0.625,0.425
  rectangle: -0.575,0.575 -0.425,0.625
  region: -0.425,0.575 -0.425,0.425 -0.375,0.425 -0.375,0.575
  region: -0.425,0.425 -0.575,0.425 -0.575,0.375 -0.425,0.375
  region: -0.075,0.575 -0.075,0.425 0.075,0.425 0.075,0.575
  region: -0.075,0.425 -0.075,0.575 -0.125,0.575 -0.125,0.425
  rectangle: -0.075,0.575 0.075,0.625
  region: 0.075,0.575 0.075,0.425 0.125,0.425 0.125,0.575
  region: 0.075,0.425 -0.075,0.425 -0.075,0.375 0.075,0.375
  region: 0.425,0.575 0.425,0.425 0.575,0.425 0.575,0.575
  region: 0.425,0.425 0.425,0.575 0.375,0.575 0.375,0.425
  rectangle: 0.425,0.575 0.575,0.625
  region: 0.575,0.575 0.575,0.425 0.625,0.425 0.625,0.575
  region: 0.575,0.425 0.425,0.425 0.425,0.375 0.575,0.375
  region: -0.575,0.075 -0.575,-0.075 -0.425,-0.075 -0.425,0.075
  region: -0.575,-0.075 -0.575,0.075 -0.625,0.075 -0.625,-0.075
  rectangle: -0.575,0.075 -0.425,0.125
  region: -0.425,0.075 -0.425,-0.075 -0.375,-0.075 -0.375,0.075
  region: -0.425,-0.075 -0.575,-0.075 -0.575,-0.125 -0.425,-0.125
  region: 0.425,0.075 0.425,-0.075 0.575,-0.075 0.575,0.075
  region: 0.425,-0.075 0.425,0.075 0.375,0.075 0.375,-0.075
  rectangle: 0.425,0.075 0.575,0.125
  region: 0.575,0.075 0.575,-0.075 0.625,-0.075 0.625,0.075
  region: 0.575,-0.075 0.425,-0.075 0.425,-0.125 0.575,-0.125
  region: -0.575,-0.425 -0.575,-0.575 -0.425,-0.575 -0.425,-0.425
  region: -0.575,-0.575 -0.575,-0.425 -0.625,-0.425 -0.625,-0.575
  rectangle: -0.575,-0.425 -0.425,-0.375
  region: -0.425,-0.425 -0.425,-0.575 -0.375,-0.575 -0.375,-0.425
  region: -0.425,-0.575 -0.575,-0.575 -0.575,-0.625 -0.425,-0.625
  region: -0.075,-0.425 -0.075,-0.575 0.075,-0.575 0.075,-0.425
  region: -0.075,-0.575 -0.075,-0.425 -0.125,-0.425 -0.125,-0.575
  rectangle: -0.075,-0.425 0.075,-0.375
  region: 0.075,-0.425 0.075,-0.575 0.125,-0.575 0.125,-0.425
  region: 0.075,-0.575 -0.075,-0.575 -0.075,-0.625 0.075,-0.625
  region: 0.425,-0.425 0.425,-0.575 0.575,-0.575 0.575,-0.425
  region: 0.425,-0.575 0.425,-0.425 0.375,-0.425 0.375,-0.575
  rectangle: 0.425,-0.425 0.575,-0.375
  region: 0.575,-0.425 0.575,-0.575 0.625,-0.575 0.625,-0.425
  region: 0.575,-0.575 0.425,-0.575 0.425,-0.625 0.575,-0.625
Mechanical 13:
  lines w0.1: -0.785,-0.785 -0.785,0.785 0.785,0.785 0.785,-0.785 -0.785,-0.785
Mechanical 15:
  lines w0.05: -0.885,-0.885 -0.885,0.885 0.885,0.885 0.885,-0.885 -0.885,-0.885
  lines w0.1: -0.5,0 0.5,0 ; 0,-0.5 0,0.5
3D body: height 0.68, standoff 0, extent -0.785,-0.785 0.785,0.785